# Altium footprint library RT9193-33GB.PcbLib: 2 footprints
Each footprint in its own frame and in the unit in brackets; x right, y up, seen from the top. Pads: shape width x height; smd on the part's side, far side on the other; paste and mask are expansions set on the pad; w line width, h text height; cw(c..) or ccw(c..) is an arc to the next point about the centre after c.
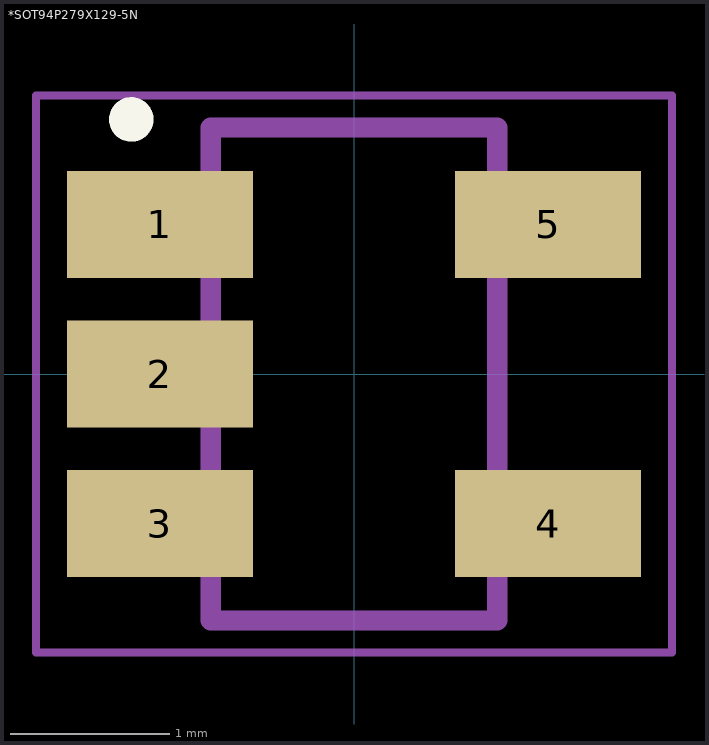
[diagram p0: the footprints below, top view; thin cyan lines are the x and y axes]

## *SOT94P279X129-5N [mm]
pads (5):
  rect 1.17x0.67 smd: 1(-1.22,0.94) 2(-1.22,0) 3(-1.22,-0.94) 4(1.22,-0.94) 5(1.22,0.94)
Top Overlay:
  circle w0.14: c-1.4,1.6 r0.07
Mechanical 4:
  lines w0.127: -0.9,-1.55 -0.9,1.55 ; -0.9,-1.55 0.9,-1.55 ; -0.9,-1.55 -0.9,1.55 ; -0.9,-1.55 0.9,-1.55 ; -0.9,1.55 0.9,1.55 ; -0.9,1.55 0.9,1.55 ; 0.9,-1.55 0.9,1.55 ; 0.9,-1.55 0.9,1.55
Mechanical 16:
  lines w0.05: -2,-1.75 2,-1.75 2,1.75 -2,1.75 -2,-1.75

## PCBComponent_1 [mm]